# Altium schematic symbol library Componentes.SchLib: 1 symbol
Pins are listed as number, name and electrical type; pins without a type are passive.

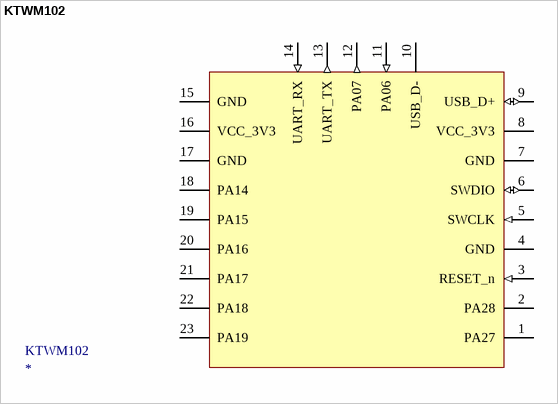
[diagram p0: symbol KTWM102]

## KTWM102
designator KTWM102
https://www.kirale.com/products/ktwm102/
footprint KTWM102
pins: 1 PA27, 2 PA28, 3 RESET_n (in), 4 GND, 5 SWCLK (in), 6 SWDIO (io), 7 GND, 8 VCC_3V3, 9 USB_D+ (io), 10 USB_D-, 11 PA06 (in), 12 PA07 (out), 13 UART_TX (out), 14 UART_RX (in), 15 GND, 16 VCC_3V3, 17 GND, 18 PA14, 19 PA15, 20 PA16, 21 PA17, 22 PA18, 23 PA19